# Altium footprint library IC-Packages.PcbLib: 22 footprints (part 2 of 2)
Each footprint in its own frame and in the unit in brackets; x right, y up, seen from the top. Pads: shape width x height; smd on the part's side, far side on the other; paste and mask are expansions set on the pad; w line width, h text height; cw(c..) or ccw(c..) is an arc to the next point about the centre after c.
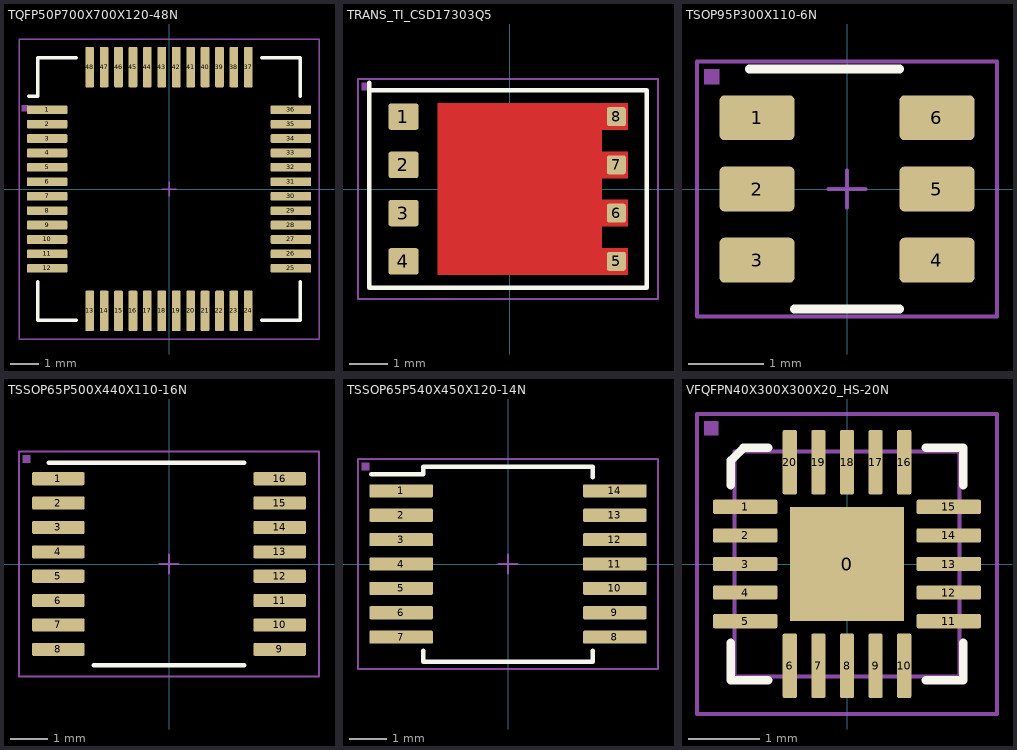
[diagram p1: the footprints below, top view; thin cyan lines are the x and y axes]

## TQFP50P700X700X120-48N [mm]
height 1.2
pads (48):
  rrect23% 1.4x0.3 smd: 1(-4.225,2.75) 2(-4.225,2.25) 3(-4.225,1.75) 4(-4.225,1.25) 5(-4.225,0.75) 6(-4.225,0.25) 7(-4.225,-0.25) 8(-4.225,-0.75) 9(-4.225,-1.25) 10(-4.225,-1.75) 11(-4.225,-2.25) 12(-4.225,-2.75) 25(4.225,-2.75) 26(4.225,-2.25) 27(4.225,-1.75) 28(4.225,-1.25) 29(4.225,-0.75) 30(4.225,-0.25) 31(4.225,0.25) 32(4.225,0.75) 33(4.225,1.25) 34(4.225,1.75) 35(4.225,2.25) 36(4.225,2.75)
  rrect23% 0.3x1.4 smd: 13(-2.75,-4.225) 14(-2.25,-4.225) 15(-1.75,-4.225) 16(-1.25,-4.225) 17(-0.75,-4.225) 18(-0.25,-4.225) 19(0.25,-4.225) 20(0.75,-4.225) 21(1.25,-4.225) 22(1.75,-4.225) 23(2.25,-4.225) 24(2.75,-4.225) 37(2.75,4.225) 38(2.25,4.225) 39(1.75,4.225) 40(1.25,4.225) 41(0.75,4.225) 42(0.25,4.225) 43(-0.25,4.225) 44(-0.75,4.225) 45(-1.25,4.225) 46(-1.75,4.225) 47(-2.25,4.225) 48(-2.75,4.225)
Top Overlay:
  lines w0.12: -4.86,3.21 -4.55,3.21 -4.55,4.55 -3.21,4.55 ; -4.55,-3.21 -4.55,-4.55 -3.21,-4.55 ; 3.21,-4.55 4.55,-4.55 4.55,-3.21 ; 3.21,4.55 4.55,4.55 4.55,3.21
15. Courtyard TOP:
  lines w0.05: -0.25,0 0.25,0 ; 0,-0.25 0,0.25 ; -5.2,-5.2 5.2,-5.2 5.2,5.2 -5.2,5.2 -5.2,-5.2
18. Assembly TOP:
  region: -5.1,2.9 -4.9,2.9 -4.9,2.7 -5.1,2.7
  lines w0.05: -5.2,-5.2 5.2,-5.2 5.2,5.2 -5.2,5.2 -5.2,-5.2
  text ".designator" at -3.4,-0.7 h1.5
3D body: height 1.48, standoff 0.02, extent -4.5,-4.5 4.5,4.5

## TRANS_TI_CSD17303Q5 [mm] "Texas Instruments Q5 package"
height 1
pads (8):
  rrect23% 0.8x0.7 smd: 1(-2.803,1.905) 3(-2.803,-0.635) 4(-2.803,-1.905)
  rrect23% 0.8x0.7 smd paste+0: 2(-2.803,0.635)
  rrect23% 0.5x0.5 smd: 5(2.802,-1.905) 6(2.802,-0.635) 7(2.802,0.635) 8(2.802,1.905)
Top Layer:
  region: -1.898,-2.255 -1.898,2.255 3.102,2.255 3.102,1.555 2.422,1.555 2.422,0.985 3.102,0.985 3.102,0.285 2.422,0.285 2.422,-0.285 3.102,-0.285 3.102,-0.985 2.422,-0.985 2.422,-1.555 3.102,-1.555 3.102,-2.255
Top Overlay:
  lines w0.12: -3.7,2.8 -3.7,2.6 ; -3.7,2.6 -3.7,-2.6 3.6,-2.6 3.6,2.6 -3.7,2.6
15. Courtyard TOP:
  lines w0.05: -0.25,0 0.25,0 ; 0,-0.25 0,0.25 ; -4,-2.9 3.9,-2.9 3.9,2.9 -4,2.9 -4,-2.9
18. Assembly TOP:
  region: -3.9,2.8 -3.7,2.8 -3.7,2.6 -3.9,2.6
  lines w0.05: -4,-2.9 -4,2.9 3.9,2.9 3.9,-2.9 -4,-2.9
  text ".designator" at -3.4,-0.7 h1.5
3D body: height 1.5, standoff 0, extent -3.6,-2.5 3.5,2.5

## TSOP95P300X110-6N [mm] "JEDEC MO-193AA"
height 1.1
pads (6):
  rrect23% 1x0.6 smd: 1(-1.2,0.95) 2(-1.2,0) 3(-1.2,-0.95) 4(1.2,-0.95) 5(1.2,0) 6(1.2,0.95)
Top Overlay:
  lines w0.12: -1.3,1.6 0.7,1.6 ; -0.7,-1.6 0.7,-1.6
15. Courtyard TOP:
  lines w0.05: -0.25,0 0.25,0 ; 0,-0.25 0,0.25 ; -2,-1.7 2,-1.7 2,1.7 -2,1.7 -2,-1.7
18. Assembly TOP:
  region: -1.9,1.6 -1.7,1.6 -1.7,1.4 -1.9,1.4
  lines w0.05: -2,-1.7 -2,1.7 2,1.7 2,-1.7 -2,-1.7
  text ".designator" at -1.6,-0.3 h0.7
3D body: height 1, standoff 0, extent -1.35,-1.5 1.35,1.5

## TSSOP65P500X440X110-16N [mm] "TSOP, 16-Leads, Body 5,00x4,40mm, Pitch 0,65mm, IPC Medium Density"
height 1.1
pads (16):
  rrect23% 1.4x0.35 smd: 1(-2.95,2.275) 2(-2.95,1.625) 3(-2.95,0.975) 4(-2.95,0.325) 5(-2.95,-0.325) 6(-2.95,-0.975) 7(-2.95,-1.625) 8(-2.95,-2.275) 9(2.95,-2.275) 10(2.95,-1.625) 11(2.95,-0.975) 12(2.95,-0.325) 13(2.95,0.325) 14(2.95,0.975) 15(2.95,1.625) 16(2.95,2.275)
Top Overlay:
  lines w0.12: -3.2,2.7 2,2.7 ; -2,-2.7 2,-2.7
15. Courtyard TOP:
  lines w0.05: -0.25,0 0.25,0 ; 0,-0.25 0,0.25 ; -4,-3 4,-3 4,3 -4,3 -4,-3
18. Assembly TOP:
  region: -3.9,2.9 -3.7,2.9 -3.7,2.7 -3.9,2.7
  lines w0.05: -4,-3 -4,3 4,3 4,-3 -4,-3
  text ".designator" at -3.3,-0.6 h1.5
3D body: height 1.1, standoff 0, extent -3.2,-2.5 3.2,2.5

## TSSOP65P540X450X120-14N [mm] "TSSOP, 14-Leads, Body 5.4x4.5mm (max), Pitch 0.65mm, IPC Medium Density"
height 1.2
pads (14):
  rrect23% 1.7x0.35 smd mask+0.1: 1(-2.85,1.95) 2(-2.85,1.3) 3(-2.85,0.65) 4(-2.85,0) 5(-2.85,-0.65) 6(-2.85,-1.3) 7(-2.85,-1.95) 8(2.85,-1.95) 9(2.85,-1.3) 10(2.85,-0.65) 11(2.85,0) 12(2.85,0.65) 13(2.85,1.3) 14(2.85,1.95)
Top Overlay:
  lines w0.12: -3.64,2.4 -2.26,2.4 -2.26,2.6 2.26,2.6 2.26,2.31 ; -2.26,-2.31 -2.26,-2.6 2.26,-2.6 2.26,-2.31
15. Courtyard TOP:
  lines w0.05: -0.25,0 0.25,0 ; 0,-0.25 0,0.25 ; -4,-2.8 -4,2.8 4,2.8 4,-2.8 -4,-2.8
18. Assembly TOP:
  region: -3.9,2.7 -3.7,2.7 -3.7,2.5 -3.9,2.5
  lines w0.05: -4,-2.8 4,-2.8 4,2.8 -4,2.8 -4,-2.8
  text ".designator" at -3.4,-0.7 h1.5
3D body: height 1.2, standoff 0, extent -3.2,-2.55 3.2,2.55

## VFQFPN40X300X300X20_HS-20N [mm] "QFN, 20-Leads, Body 3,00x3,00mm, Pitch 0,40mm, Thermal Pad 1,60x1,60mm, IPC Medium Density"
height 0.05
pads (21):
  rect 1.6x1.6 smd: 0(0,0)
  rrect23% 0.9x0.2 smd: 1(-1.425,0.8) 2(-1.425,0.4) 3(-1.425,0) 4(-1.425,-0.4) 5(-1.425,-0.8) 11(1.425,-0.8) 12(1.425,-0.4) 13(1.425,0) 14(1.425,0.4) 15(1.425,0.8)
  rrect23% 0.2x0.9 smd: 6(-0.8,-1.425) 7(-0.4,-1.425) 8(0,-1.425) 9(0.4,-1.425) 10(0.8,-1.425) 16(0.8,1.425) 17(0.4,1.425) 18(0,1.425) 19(-0.4,1.425) 20(-0.8,1.425)
Top Overlay:
  lines w0.12: -1.625,-1.1 -1.625,-1.625 -1.1,-1.625 ; -1.625,1.1 -1.625,1.45 -1.45,1.625 -1.1,1.625 ; 1.1,-1.625 1.625,-1.625 1.625,-1.1 ; 1.1,1.625 1.625,1.625 1.625,1.1
15. Courtyard TOP:
  lines w0.05: -0.25,0 0.25,0 ; 0,-0.25 0,0.25 ; -2.1,-2.1 2.1,-2.1 2.1,2.1 -2.1,2.1 -2.1,-2.1
17. Comp.body:
  lines w0.05: -1.575,-1.575 -1.575,1.575 1.575,1.575 1.575,-1.575 -1.575,-1.575
18. Assembly TOP:
  region: -2,2 -1.8,2 -1.8,1.8 -2,1.8
  lines w0.05: -2.1,-2.1 -2.1,2.1 2.1,2.1 2.1,-2.1 -2.1,-2.1
  text "IC200" at -1.6,-0.3 h0.7
3D body: height 1, standoff 0, extent -1.575,-1.575 1.575,1.575